# Altium footprint library f45224ad507ac952af3bb59d5072d14f.PcbLib: 6 footprints
Each footprint in its own frame and in the unit in brackets; x right, y up, seen from the top. Pads: shape width x height; smd on the part's side, far side on the other; paste and mask are expansions set on the pad; w line width, h text height; cw(c..) or ccw(c..) is an arc to the next point about the centre after c.
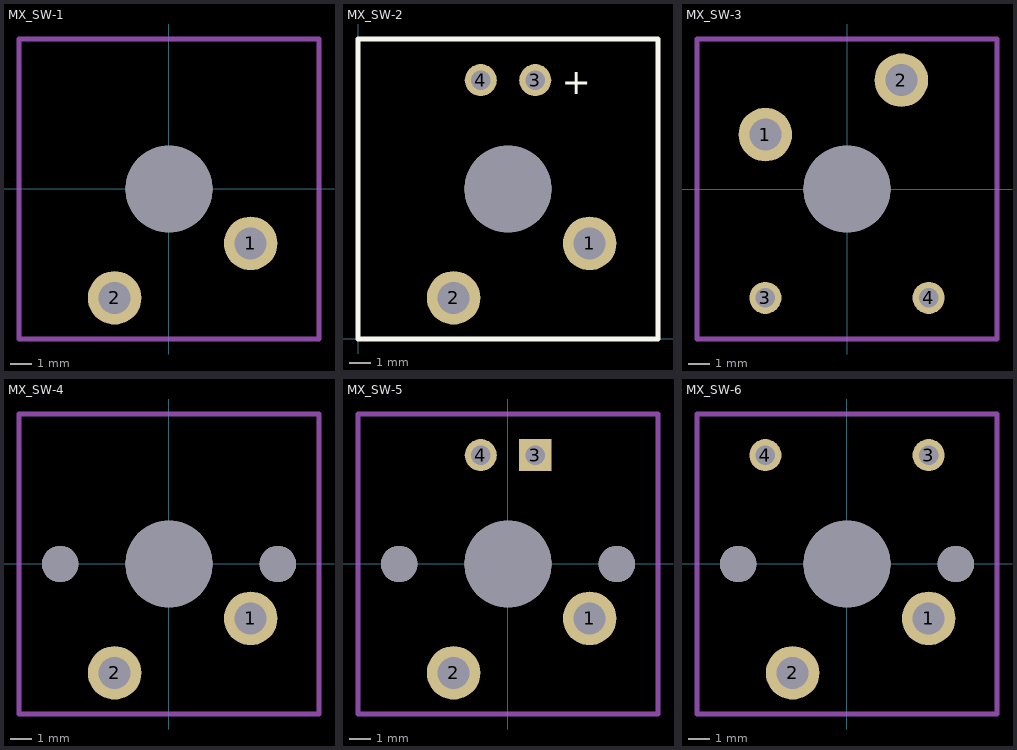
[diagram p0: the footprints below, top view; thin cyan lines are the x and y axes]

## MX_SW-1 [mm] "without Fixation pins  1-Pole"
pads (3):
  round 2.5 hole 1.5: 1(3.81,-2.54) 2(-2.54,-5.08)
  round 4.064 hole 4.064: ""(0,0)
Mechanical 1:
  lines w0.254: -7,-7 7,-7 7,7 -7,7 -7,-7

## MX_SW-2 [mm] "without Fixation pins  1-Pole w/LED"
pads (5):
  round 2.5 hole 1.5: 1(10.81,4.46) 2(4.46,1.92)
  round 1.5 hole 0.9: 3(8.27,12.08) 4(5.73,12.08)
  round 4.064 hole 4.064: ""(7,7)
Top Overlay:
  lines w0.254: 0,0 0,14 14,14 14,0 0,0
  text "+" at 9.5,11.43 h1.2

## MX_SW-3 [mm] "without Fixation pins  1-Pole w/Diode"
pads (5):
  round 2.5 hole 1.5: 1(-3.81,2.54) 2(2.54,5.08)
  round 1.5 hole 0.9: 3(-3.81,-5.08) 4(3.81,-5.08)
  round 4.064 hole 4.064: ""(0,0)
Mechanical 1:
  lines w0.254: -7,-7 -7,7 7,7 7,-7 -7,-7

## MX_SW-4 [mil] "with Fixation pins  1-Pole"
pads (5):
  round 98.43 hole 59.06: 1(150,-100) 2(-100,-200)
  round 67 hole 67: ""(-200,0) ""(200,0)
  round 160 hole 160: ""(0,0)
Mechanical 1:
  lines w10: -275.59,-275.59 -275.59,275.59 275.59,275.59 275.59,-275.59 -275.59,-275.59

## MX_SW-5 [mm] "with Fixation pins  1-Pole w/LED"
pads (7):
  round 2.5 hole 1.5: 1(3.81,-2.54) 2(-2.54,-5.08)
  rect 1.5x1.5 hole 0.9: 3(1.27,5.08)
  round 1.5 hole 0.9: 4(-1.27,5.08)
  round 1.702 hole 1.702: ""(-5.08,0) ""(5.08,0)
  round 4.064 hole 4.064: ""(0,0)
Mechanical 1:
  lines w0.254: -7,-7 7,-7 7,7 -7,7 -7,-7

## MX_SW-6 [mm] "with Fixation pins  1-Pole w/Diode"
pads (7):
  round 2.5 hole 1.5: 1(3.81,-2.54) 2(-2.54,-5.08)
  round 1.5 hole 0.9: 3(3.81,5.08) 4(-3.81,5.08)
  round 1.702 hole 1.702: ""(-5.08,0) ""(5.08,0)
  round 4.064 hole 4.064: ""(0,0)
Mechanical 1:
  lines w0.254: -7,-7 7,-7 7,7 -7,7 -7,-7